# EAGLE library part TF-115 (library Tilmann)
TF-115 SMD SD card holder Footprint: TF-115 Partnr: C266620 Datasheet: Link <https://datasheet.lcsc.com/lcsc/2105061832_XUNPU-TF-115_C266620.pdf>
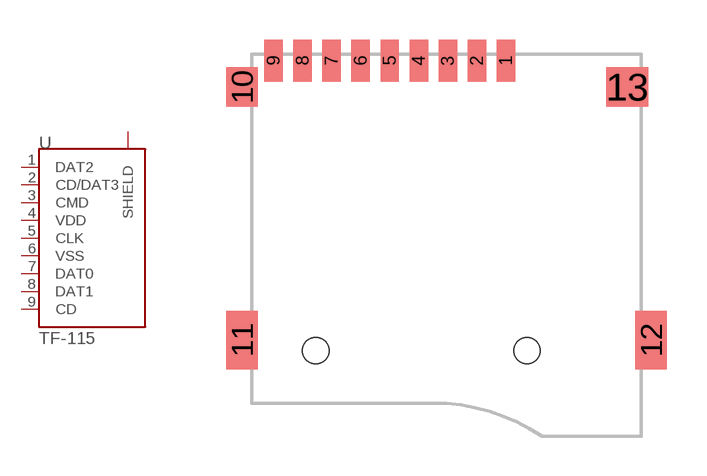
[diagram p5: symbol with the pads of TF-115; footprint TF-115]

Designator prefix -

## TF-115 (PTNR: C266620)  [TF-115]
1  DAT2
2  CD/DAT3
3  CMD
4  VDD
5  CLK
6  VSS
7  DAT0
8  DAT1
9  CD
10  SHIELD
11  SHIELD
12  SHIELD
13  SHIELD

## Footprint TF-115 (pad centres in mm)
smd 0.7 x 1.6: 1 -0.798,10.997; 2 -1.898,10.997; 3 -2.998,10.997; 4 -4.098,10.997; 5 -5.198,10.997; 6 -6.298,10.997; 7 -7.398,10.997; 8 -8.498,10.997; 9 -9.598,10.997
smd 1.2 x 1.5: 10 -10.798,9.997
smd 1.2 x 2.2: 11 -10.798,0.397; 12 4.702,0.397
smd 1.6 x 1.5: 13 3.8,10
hole 1 at -7.998,-0.003
hole 1 at 0.002,-0.003